# Altium schematic symbol library CD40109B-Q1_NS_16.SchLib: 2 symbols
Pins are listed as number, name and electrical type; pins without a type are passive.

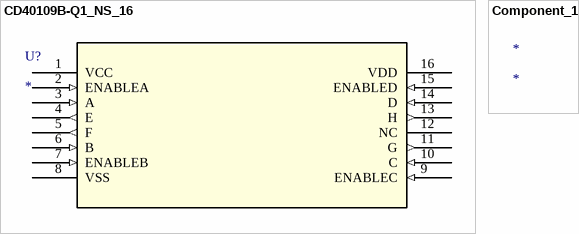
[diagram p0: symbols CD40109B-Q1_NS_16 to Component_1]

## CD40109B-Q1_NS_16
designator U?
No Description Available; Mfr_Name: Texas Instruments; RefDes: RefDes; Type: Type
footprint NS16_TEX
pins: 1 VCC (power), 2 ENABLEA (in), 3 A (in), 4 E (out), 5 F (out), 6 B (in), 7 ENABLEB (in), 8 VSS (power), 9 ENABLEC (in), 10 C (in), 11 G (out), 12 NC, 13 H (out), 14 D (in), 15 ENABLED (in), 16 VDD (power)

## Component_1
designator *